# Altium schematic symbol library SCH - MCU - STM32 - ST MICROELECTRONICS STM32F723V(C-E)YX WLCSP100.SchLib: 1 symbol
Pins are listed as number, name and electrical type; pins without a type are passive.

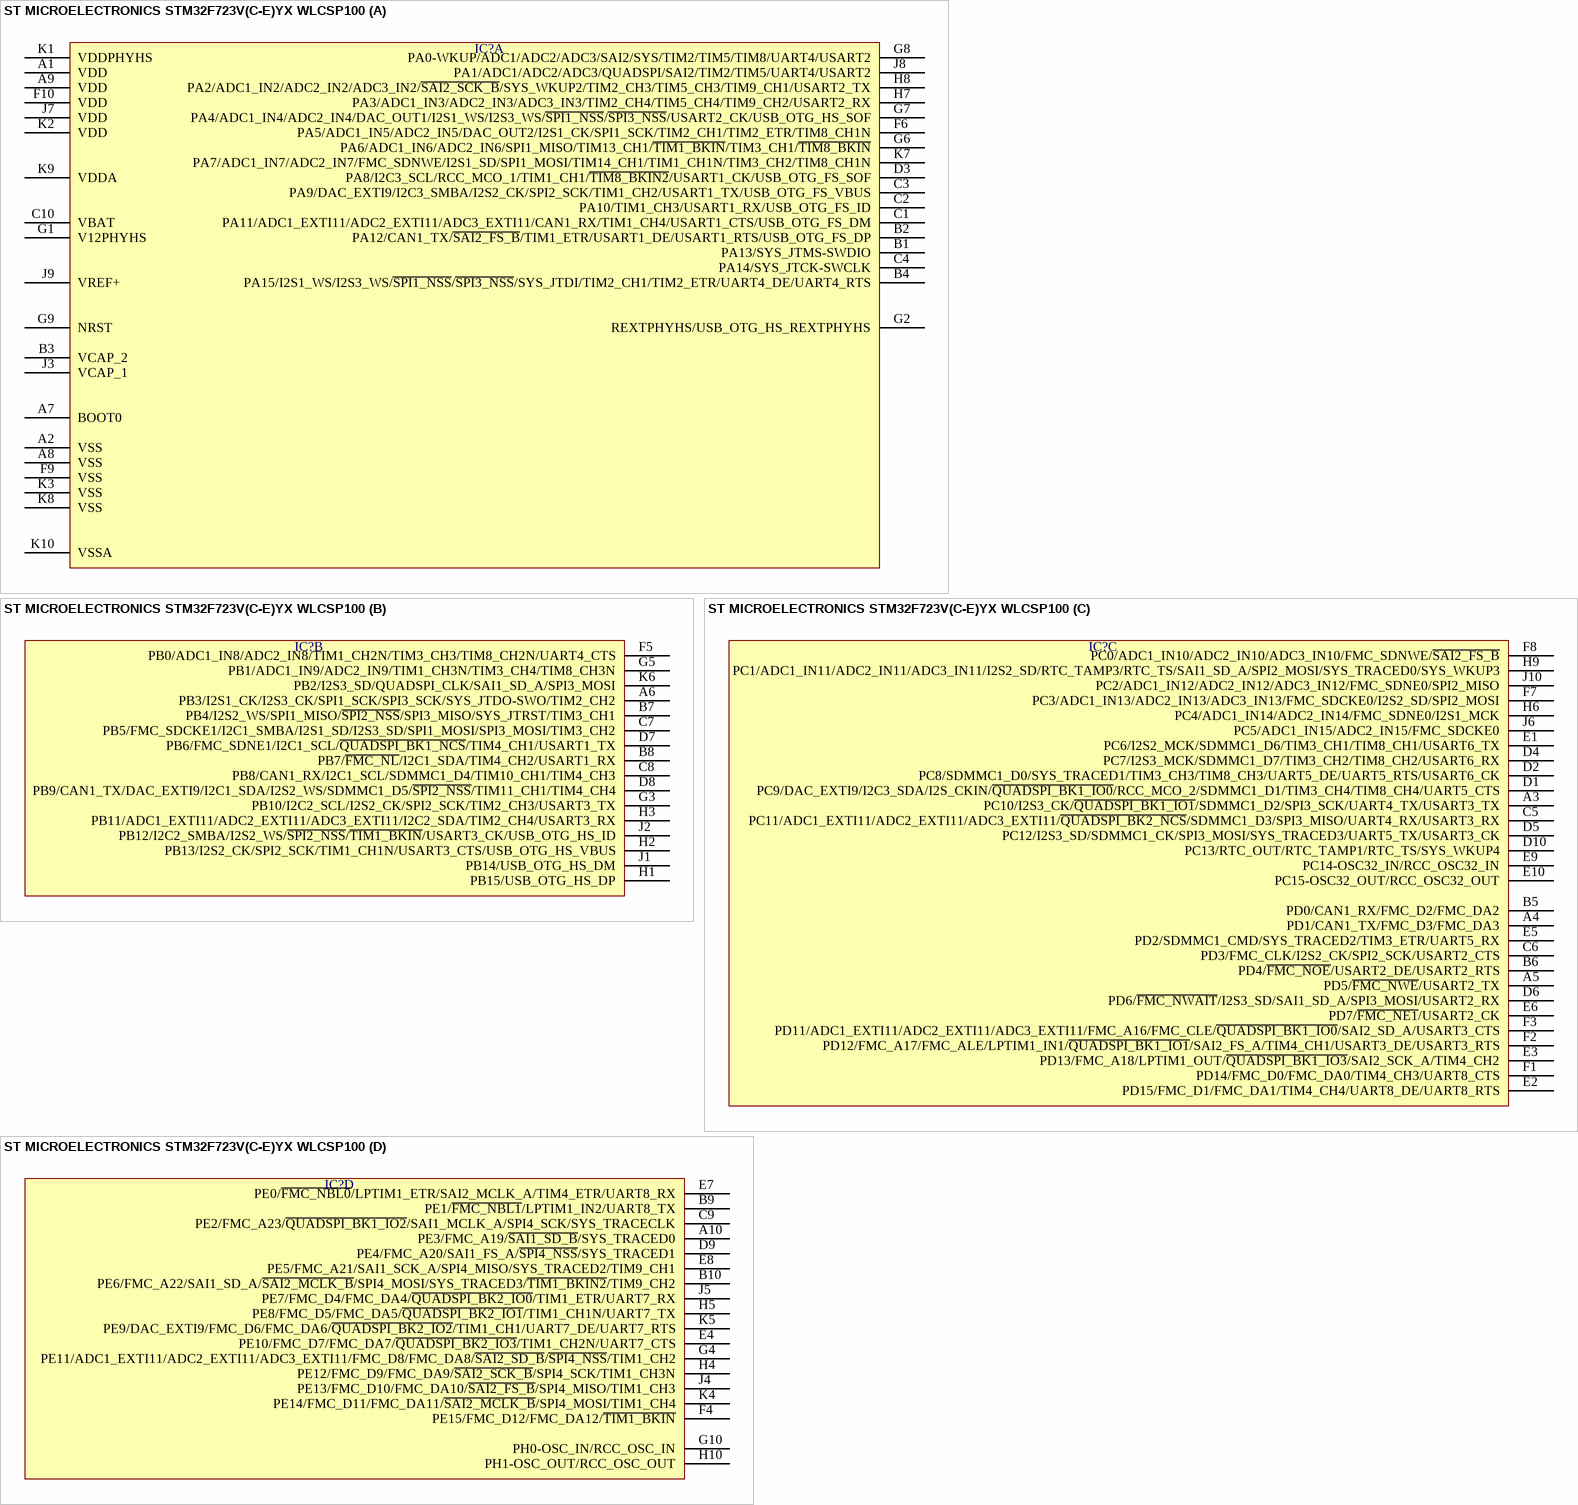
[diagram p0: symbol ST MICROELECTRONICS STM32F723V(C-E)YX WLCSP100]

## ST MICROELECTRONICS STM32F723V(C-E)YX WLCSP100
designator IC?  (value not drawn)
part A pins: A1 VDD, A2 VSS, A7 BOOT0, A8 VSS, A9 VDD, B1 PA13/SYS_JTMS-SWDIO, B2 PA12/CAN1_TX/~{SAI2_FS_B}/TIM1_ETR/USART1_DE/USART1_RTS/USB_OTG_FS_DP, B3 VCAP_2, B4 PA15/I2S1_WS/I2S3_WS/~{SPI1_NSS}/~{SPI3_NSS}/SYS_JTDI/TIM2_CH1/TIM2_ETR/UART4_DE/UART4_RTS, C1 PA11/ADC1_EXTI11/ADC2_EXTI11/ADC3_EXTI11/CAN1_RX/TIM1_CH4/USART1_CTS/USB_OTG_FS_DM, C2 PA10/TIM1_CH3/USART1_RX/USB_OTG_FS_ID, C3 PA9/DAC_EXTI9/I2C3_SMBA/I2S2_CK/SPI2_SCK/TIM1_CH2/USART1_TX/USB_OTG_FS_VBUS, C4 PA14/SYS_JTCK-SWCLK, C10 VBAT, D3 PA8/I2C3_SCL/RCC_MCO_1/TIM1_CH1/~{TIM8_BKIN2}/USART1_CK/USB_OTG_FS_SOF, F6 PA5/ADC1_IN5/ADC2_IN5/DAC_OUT2/I2S1_CK/SPI1_SCK/TIM2_CH1/TIM2_ETR/TIM8_CH1N, F9 VSS, F10 VDD, G1 V12PHYHS, G2 REXTPHYHS/USB_OTG_HS_REXTPHYHS, G6 PA6/ADC1_IN6/ADC2_IN6/SPI1_MISO/TIM13_CH1/~{TIM1_BKIN}/TIM3_CH1/~{TIM8_BKIN}, G7 PA4/ADC1_IN4/ADC2_IN4/DAC_OUT1/I2S1_WS/I2S3_WS/~{SPI1_NSS}/~{SPI3_NSS}/USART2_CK/USB_OTG_HS_SOF, G8 PA0-WKUP/ADC1/ADC2/ADC3/SAI2/SYS/TIM2/TIM5/TIM8/UART4/USART2, G9 NRST, H7 PA3/ADC1_IN3/ADC2_IN3/ADC3_IN3/TIM2_CH4/TIM5_CH4/TIM9_CH2/USART2_RX, H8 PA2/ADC1_IN2/ADC2_IN2/ADC3_IN2/~{SAI2_SCK_B}/SYS_WKUP2/TIM2_CH3/TIM5_CH3/TIM9_CH1/USART2_TX, J3 VCAP_1, J7 VDD, J8 PA1/ADC1/ADC2/ADC3/QUADSPI/SAI2/TIM2/TIM5/UART4/USART2, J9 VREF+, K1 VDDPHYHS, K2 VDD, K3 VSS, K7 PA7/ADC1_IN7/ADC2_IN7/FMC_SDNWE/I2S1_SD/SPI1_MOSI/TIM14_CH1/TIM1_CH1N/TIM3_CH2/TIM8_CH1N, K8 VSS, K9 VDDA, K10 VSSA
part B pins: A6 PB3/I2S1_CK/I2S3_CK/SPI1_SCK/SPI3_SCK/SYS_JTDO-SWO/TIM2_CH2, B7 PB4/I2S2_WS/SPI1_MISO/~{SPI2_NSS}/SPI3_MISO/SYS_JTRST/TIM3_CH1, B8 PB7/~{FMC_NL}/I2C1_SDA/TIM4_CH2/USART1_RX, C7 PB5/FMC_SDCKE1/I2C1_SMBA/I2S1_SD/I2S3_SD/SPI1_MOSI/SPI3_MOSI/TIM3_CH2, C8 PB8/CAN1_RX/I2C1_SCL/SDMMC1_D4/TIM10_CH1/TIM4_CH3, D7 PB6/FMC_SDNE1/I2C1_SCL/~{QUADSPI_BK1_NCS}/TIM4_CH1/USART1_TX, D8 PB9/CAN1_TX/DAC_EXTI9/I2C1_SDA/I2S2_WS/SDMMC1_D5/~{SPI2_NSS}/TIM11_CH1/TIM4_CH4, F5 PB0/ADC1_IN8/ADC2_IN8/TIM1_CH2N/TIM3_CH3/TIM8_CH2N/UART4_CTS, G3 PB10/I2C2_SCL/I2S2_CK/SPI2_SCK/TIM2_CH3/USART3_TX, G5 PB1/ADC1_IN9/ADC2_IN9/TIM1_CH3N/TIM3_CH4/TIM8_CH3N, H1 PB15/USB_OTG_HS_DP, H2 PB13/I2S2_CK/SPI2_SCK/TIM1_CH1N/USART3_CTS/USB_OTG_HS_VBUS, H3 PB11/ADC1_EXTI11/ADC2_EXTI11/ADC3_EXTI11/I2C2_SDA/TIM2_CH4/USART3_RX, J1 PB14/USB_OTG_HS_DM, J2 PB12/I2C2_SMBA/I2S2_WS/~{SPI2_NSS}/~{TIM1_BKIN}/USART3_CK/USB_OTG_HS_ID, K6 PB2/I2S3_SD/QUADSPI_CLK/SAI1_SD_A/SPI3_MOSI
part C pins: A3 PC10/I2S3_CK/~{QUADSPI_BK1_IO1}/SDMMC1_D2/SPI3_SCK/UART4_TX/USART3_TX, A4 PD1/CAN1_TX/FMC_D3/FMC_DA3, A5 PD5/~{FMC_NWE}/USART2_TX, B5 PD0/CAN1_RX/FMC_D2/FMC_DA2, B6 PD4/~{FMC_NOE}/USART2_DE/USART2_RTS, C5 PC11/ADC1_EXTI11/ADC2_EXTI11/ADC3_EXTI11/~{QUADSPI_BK2_NCS}/SDMMC1_D3/SPI3_MISO/UART4_RX/USART3_RX, C6 PD3/FMC_CLK/I2S2_CK/SPI2_SCK/USART2_CTS, D1 PC9/DAC_EXTI9/I2C3_SDA/I2S_CKIN/~{QUADSPI_BK1_IO0}/RCC_MCO_2/SDMMC1_D1/TIM3_CH4/TIM8_CH4/UART5_CTS, D2 PC8/SDMMC1_D0/SYS_TRACED1/TIM3_CH3/TIM8_CH3/UART5_DE/UART5_RTS/USART6_CK, D4 PC7/I2S3_MCK/SDMMC1_D7/TIM3_CH2/TIM8_CH2/USART6_RX, D5 PC12/I2S3_SD/SDMMC1_CK/SPI3_MOSI/SYS_TRACED3/UART5_TX/USART3_CK, D6 PD6/~{FMC_NWAIT}/I2S3_SD/SAI1_SD_A/SPI3_MOSI/USART2_RX, D10 PC13/RTC_OUT/RTC_TAMP1/RTC_TS/SYS_WKUP4, E1 PC6/I2S2_MCK/SDMMC1_D6/TIM3_CH1/TIM8_CH1/USART6_TX, E2 PD15/FMC_D1/FMC_DA1/TIM4_CH4/UART8_DE/UART8_RTS, E3 PD13/FMC_A18/LPTIM1_OUT/~{QUADSPI_BK1_IO3}/SAI2_SCK_A/TIM4_CH2, E5 PD2/SDMMC1_CMD/SYS_TRACED2/TIM3_ETR/UART5_RX, E6 PD7/~{FMC_NE1}/USART2_CK, E9 PC14-OSC32_IN/RCC_OSC32_IN, E10 PC15-OSC32_OUT/RCC_OSC32_OUT, F1 PD14/FMC_D0/FMC_DA0/TIM4_CH3/UART8_CTS, F2 PD12/FMC_A17/FMC_ALE/LPTIM1_IN1/~{QUADSPI_BK1_IO1}/SAI2_FS_A/TIM4_CH1/USART3_DE/USART3_RTS, F3 PD11/ADC1_EXTI11/ADC2_EXTI11/ADC3_EXTI11/FMC_A16/FMC_CLE/~{QUADSPI_BK1_IO0}/SAI2_SD_A/USART3_CTS, F7 PC3/ADC1_IN13/ADC2_IN13/ADC3_IN13/FMC_SDCKE0/I2S2_SD/SPI2_MOSI, F8 PC0/ADC1_IN10/ADC2_IN10/ADC3_IN10/FMC_SDNWE/~{SAI2_FS_B}, H6 PC4/ADC1_IN14/ADC2_IN14/FMC_SDNE0/I2S1_MCK, H9 PC1/ADC1_IN11/ADC2_IN11/ADC3_IN11/I2S2_SD/RTC_TAMP3/RTC_TS/SAI1_SD_A/SPI2_MOSI/SYS_TRACED0/SYS_WKUP3, J6 PC5/ADC1_IN15/ADC2_IN15/FMC_SDCKE0, J10 PC2/ADC1_IN12/ADC2_IN12/ADC3_IN12/FMC_SDNE0/SPI2_MISO
part D pins: A10 PE3/FMC_A19/~{SAI1_SD_B}/SYS_TRACED0, B9 PE1/~{FMC_NBL1}/LPTIM1_IN2/UART8_TX, B10 PE6/FMC_A22/SAI1_SD_A/~{SAI2_MCLK_B}/SPI4_MOSI/SYS_TRACED3/~{TIM1_BKIN2}/TIM9_CH2, C9 PE2/FMC_A23/~{QUADSPI_BK1_IO2}/SAI1_MCLK_A/SPI4_SCK/SYS_TRACECLK, D9 PE4/FMC_A20/SAI1_FS_A/~{SPI4_NSS}/SYS_TRACED1, E4 PE10/FMC_D7/FMC_DA7/~{QUADSPI_BK2_IO3}/TIM1_CH2N/UART7_CTS, E7 PE0/~{FMC_NBL0}/LPTIM1_ETR/SAI2_MCLK_A/TIM4_ETR/UART8_RX, E8 PE5/FMC_A21/SAI1_SCK_A/SPI4_MISO/SYS_TRACED2/TIM9_CH1, F4 PE15/FMC_D12/FMC_DA12/~{TIM1_BKIN}, G4 PE11/ADC1_EXTI11/ADC2_EXTI11/ADC3_EXTI11/FMC_D8/FMC_DA8/~{SAI2_SD_B}/~{SPI4_NSS}/TIM1_CH2, G10 PH0-OSC_IN/RCC_OSC_IN, H4 PE12/FMC_D9/FMC_DA9/~{SAI2_SCK_B}/SPI4_SCK/TIM1_CH3N, H5 PE8/FMC_D5/FMC_DA5/~{QUADSPI_BK2_IO1}/TIM1_CH1N/UART7_TX, H10 PH1-OSC_OUT/RCC_OSC_OUT, J4 PE13/FMC_D10/FMC_DA10/~{SAI2_FS_B}/SPI4_MISO/TIM1_CH3, J5 PE7/FMC_D4/FMC_DA4/~{QUADSPI_BK2_IO0}/TIM1_ETR/UART7_RX, K4 PE14/FMC_D11/FMC_DA11/~{SAI2_MCLK_B}/SPI4_MOSI/TIM1_CH4, K5 PE9/DAC_EXTI9/FMC_D6/FMC_DA6/~{QUADSPI_BK2_IO2}/TIM1_CH1/UART7_DE/UART7_RTS